# Altium footprint library транзисторы.PcbLib: 29 footprints (part 1 of 2)
Each footprint in its own frame and in the unit in brackets; x right, y up, seen from the top. Pads: shape width x height; smd on the part's side, far side on the other; paste and mask are expansions set on the pad; w line width, h text height; cw(c..) or ccw(c..) is an arc to the next point about the centre after c.
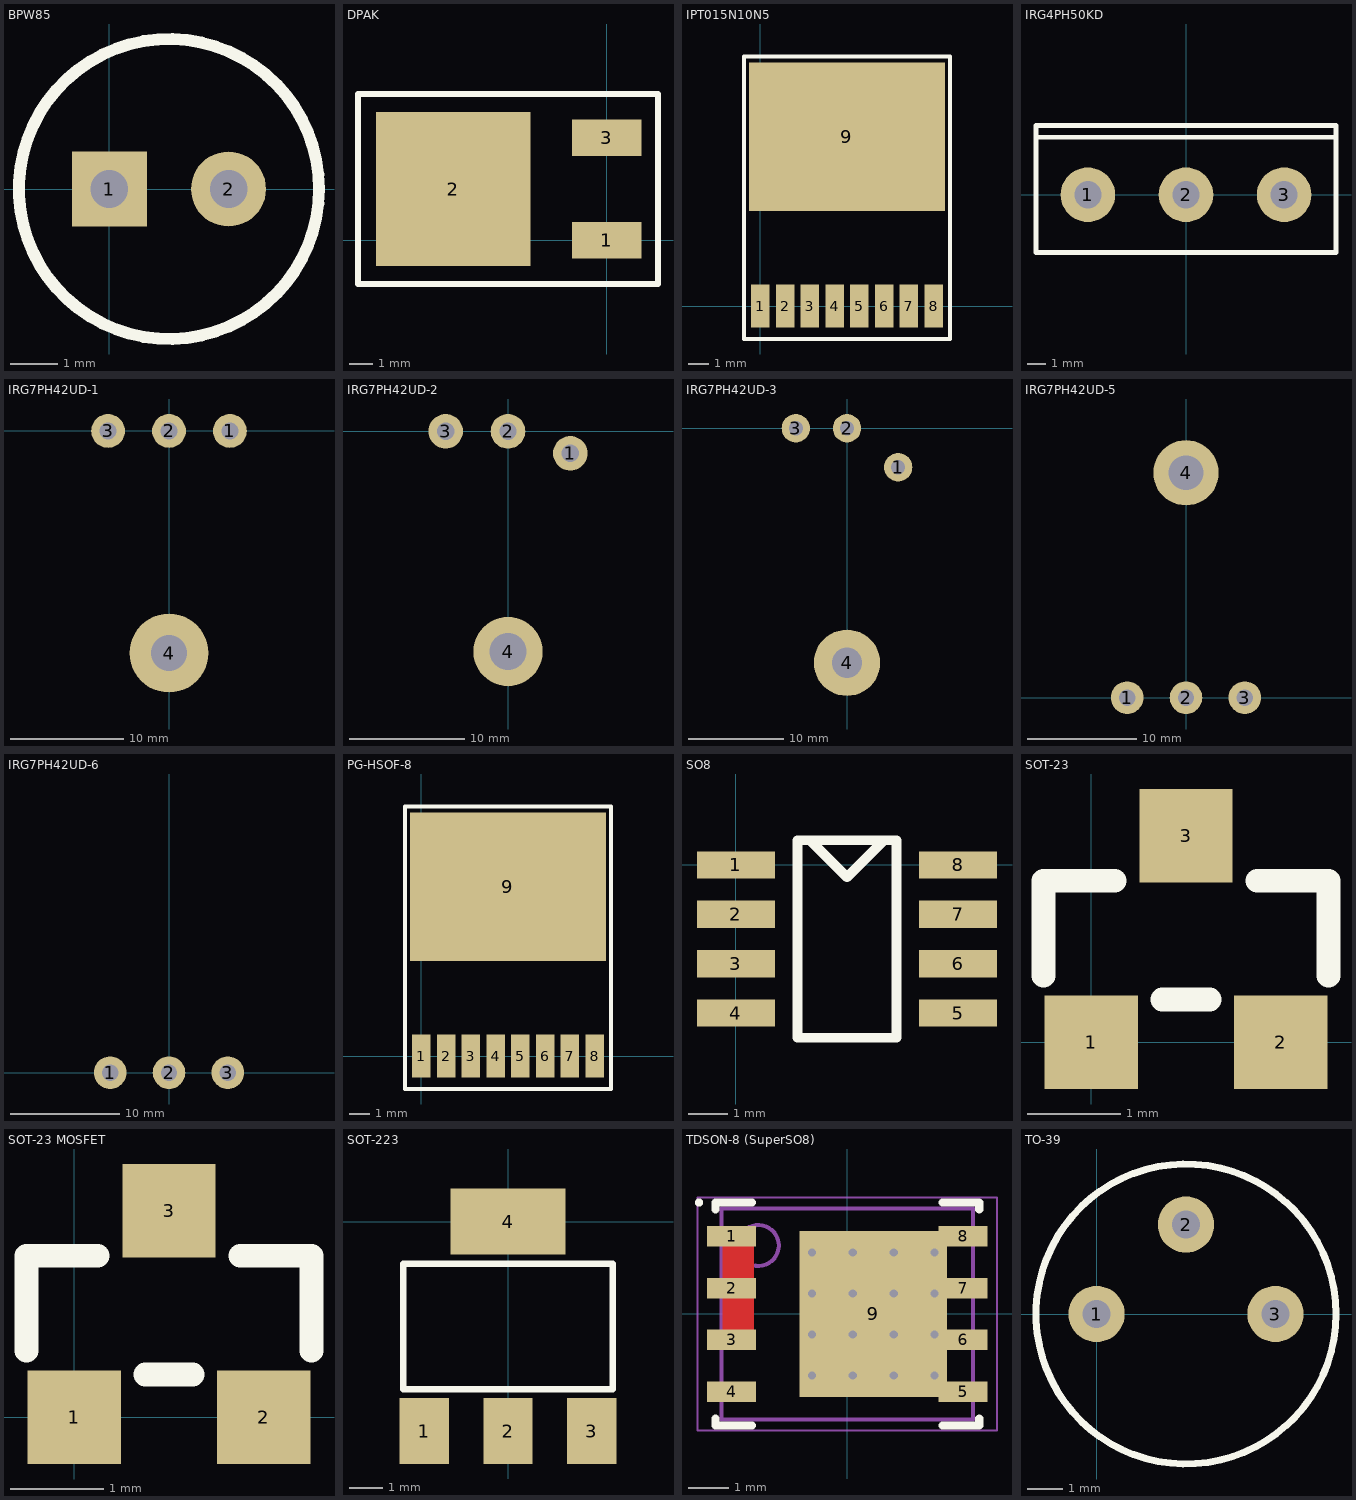
[diagram p0: the footprints below, top view; thin cyan lines are the x and y axes]

## BPW85 [mm]
pads (2):
  rect 1.6x1.6 hole 0.8: 1(0,0)
  round 1.6 hole 0.8: 2(2.54,0)
Top Overlay:
  circle w0.254: c1.27,0 r3.2

## DPAK [mm]
pads (3):
  rect 3x1.6 smd: 1(0,0) 3(0,4.445)
  rect 6.7x6.7 smd: 2(-6.667,2.222)
Top Overlay:
  lines w0.254: -10.795,-1.905 -10.795,6.35 2.222,6.35 2.222,-1.905 -10.795,-1.905

## IPT015N10N5 [mm]
pads (9):
  rect 0.9x2.1 smd: 1(0,0) 2(1.2,0) 3(2.4,0) 4(3.6,0) 5(4.8,0) 6(6,0) 7(7.2,0) 8(8.4,0)
  rect 9.5x7.2 smd: 9(4.2,8.2)
Top Overlay:
  lines w0.2: -0.8,-1.6 9.2,-1.6 9.2,12.1 -0.8,12.1 -0.8,-1.6

## IRG4PH50KD [mm]
pads (3):
  round 3 hole 1.5: 1(-5.397,0) 2(0,0) 3(5.397,0)
Top Overlay:
  lines w0.254: -8.255,3.175 8.255,3.175 ; -8.255,-3.175 -8.255,3.81 8.255,3.81 8.255,-3.175 -8.255,-3.175

## IRG7PH42UD-1 [mm]
pads (4):
  round 3 hole 1.5: 1(5.397,0) 2(0,0) 3(-5.397,0)
  round 7 hole 3.2: 4(0,-19.685)
Bottom Overlay:
  circle w0.254: c0,-19.685 r2
  lines w0.254: -8.255,-22.225 ccw(c-8.255,-19.685) -8.255,-17.145 ; -6.35,-4.763 -6.35,-1.587 ; -4.445,-4.763 -4.445,-1.587 ; -1.587,-4.763 -1.587,-1.587 ; 1.587,-4.763 1.587,-1.587 ; 4.445,-4.763 4.445,-1.587 ; 6.35,-4.763 6.35,-1.587 ; 8.255,-22.225 cw(c8.255,-19.685) 8.255,-17.145 ; -8.255,-25.082 -8.255,-4.763 8.255,-4.763 8.255,-25.082 -8.255,-25.082

## IRG7PH42UD-2 [mm]
pads (4):
  round 3 hole 1.5: 1(5.397,-1.905) 2(0,0) 3(-5.397,0)
  round 6 hole 3.2: 4(0,-19.05)
Bottom Overlay:
  circle w0.254: c0,-19.05 r2
  lines w0.254: -8.255,-21.59 ccw(c-8.255,-19.05) -8.255,-16.51 ; 8.255,-21.59 cw(c8.255,-19.05) 8.255,-16.51 ; -8.255,-24.447 8.255,-24.447 8.255,-4.127 -8.255,-4.127 -8.255,-24.447

## IRG7PH42UD-3 [mm]
pads (4):
  round 3 hole 1.5: 1(5.397,-4.127) 2(0,0) 3(-5.397,0)
  round 7 hole 3.2: 4(0,-24.765)
Bottom Overlay:
  circle w0.254: c0,-24.765 r2
  lines w0.254: -8.255,-27.305 ccw(c-8.255,-24.765) -8.255,-22.225 ; -6.35,-9.842 -6.35,-5.715 -4.445,-5.715 -4.445,-9.842 ; -5.715,-5.715 -5.715,-2.54 -5.08,-2.54 -5.08,-5.715 ; -1.587,-9.842 -1.587,-5.715 1.587,-5.715 1.587,-9.842 ; -0.635,-5.715 -0.635,-2.54 0.635,-2.54 0.635,-5.715 ; 4.445,-9.842 4.445,-6.667 ; 6.35,-9.842 6.35,-6.667 ; 8.255,-27.305 cw(c8.255,-24.765) 8.255,-22.225 ; -8.255,-30.162 8.255,-30.162 8.255,-9.842 -8.255,-9.842 -8.255,-30.162

## IRG7PH42UD-5 [mm]
pads (4):
  round 3 hole 1.5: 1(-5.397,0) 2(0,0) 3(5.397,0)
  round 6 hole 3.2: 4(0,20.637)
Bottom Overlay:
  circle w0.254: c0,20.637 r2
  lines w0.254: -8.255,18.098 ccw(c-8.255,20.637) -8.255,23.177 ; -6.35,1.587 -6.35,5.715 ; -4.445,1.587 -4.445,5.715 ; -1.587,1.587 -1.587,5.715 ; 1.587,1.587 1.587,5.715 ; 4.445,1.587 4.445,5.715 ; 6.35,1.587 6.35,5.715 ; 8.255,18.098 cw(c8.255,20.637) 8.255,23.177 ; -8.255,5.715 8.255,5.715 8.255,26.035 -8.255,26.035 -8.255,5.715

## IRG7PH42UD-6 [mm]
pads (3):
  round 3 hole 1.5: 1(-5.397,0) 2(0,0) 3(5.397,0)
Bottom Overlay:
  circle w0.254: c0,20.637 r2
  lines w0.254: -8.255,18.098 ccw(c-8.255,20.637) -8.255,23.177 ; -6.35,1.587 -6.35,5.715 ; -4.445,1.587 -4.445,5.715 ; -1.587,1.587 -1.587,5.715 ; 1.587,1.587 1.587,5.715 ; 4.445,1.587 4.445,5.715 ; 6.35,1.587 6.35,5.715 ; 8.255,18.098 cw(c8.255,20.637) 8.255,23.177 ; -8.255,5.715 8.255,5.715 8.255,26.035 -8.255,26.035 -8.255,5.715

## PG-HSOF-8 [mm]
pads (9):
  rect 0.9x2.1 smd: 1(0,0) 2(1.2,0) 3(2.4,0) 4(3.6,0) 5(4.8,0) 6(6,0) 7(7.2,0) 8(8.4,0)
  rect 9.5x7.2 smd: 9(4.2,8.2)
Top Overlay:
  lines w0.2: -0.8,-1.6 -0.8,12.1 9.2,12.1 9.2,-1.6 -0.8,-1.6

## SO8 [mm]
pads (8):
  rect 2x0.7 smd: 1(0,0) 2(0,-1.27) 3(0,-2.54) 4(0,-3.81) 5(5.715,-3.81) 6(5.715,-2.54) 7(5.715,-1.27) 8(5.715,0)
Top Overlay:
  lines w0.254: 1.905,0.635 2.857,-0.318 3.81,0.635 ; 1.587,-4.445 1.587,0.635 4.127,0.635 4.127,-4.445 1.587,-4.445

## SOT-23 [mm]
pads (3):
  rect 1x1 smd: 1(0,0) 2(2.032,0) 3(1.016,2.21)
Top Overlay:
  lines w0.254: -0.508,0.711 -0.508,1.727 0.254,1.727 ; 0.762,0.457 1.27,0.457 ; 1.778,1.727 2.54,1.727 2.54,0.711
3D body "User Library-SOT23A.SLDPRT": height 1.45, standoff 0, extent -0.534,-0.31 2.566,2.593

## SOT-23 MOSFET [mm]
pads (3):
  rect 1x1 smd: 1(0,0) 2(2.032,0) 3(1.016,2.21)
Top Overlay:
  lines w0.254: -0.508,0.711 -0.508,1.727 0.254,1.727 ; 0.762,0.457 1.27,0.457 ; 1.778,1.727 2.54,1.727 2.54,0.711
3D body "User Library-SOT23A.SLDPRT": height 1.45, standoff 0, extent -0.534,-0.31 2.566,2.593

## SOT-223 [mm]
pads (4):
  rect 1.5x2 smd: 1(-2.54,-6.35) 2(0,-6.35) 3(2.54,-6.35)
  rect 3.5x2 smd: 4(0,0)
Top Overlay:
  lines w0.2: -3.175,-5.08 -3.175,-1.27 3.175,-1.27 3.175,-5.08 -3.175,-5.08

## TDSON-8 (SuperSO8) [mm] "SON, 8-Leads, Body 5,15x6,15mm, Pitch 1,27mm, Thermal Pad"
height 1.1
pads (9):
  rect 1.2x0.5 smd: 1(-2.83,1.905) 2(-2.83,0.635) 3(-2.83,-0.635) 4(-2.83,-1.905) 5(2.83,-1.905) 6(2.83,-0.635) 7(2.83,0.635) 8(2.83,1.905)
  rect 3.6x4.05 smd: 9(0.635,0)
via -0.865,-0.5 diameter 0.5 hole 0.2
via -0.865,-1.5 diameter 0.5 hole 0.2
via -0.865,1.5 diameter 0.5 hole 0.2
via -0.865,0.5 diameter 0.5 hole 0.2
via 1.135,-0.5 diameter 0.5 hole 0.2
via 1.135,-1.5 diameter 0.5 hole 0.2
via 1.135,1.5 diameter 0.5 hole 0.2
via 1.135,0.5 diameter 0.5 hole 0.2
via 0.135,-0.5 diameter 0.5 hole 0.2
via 2.135,-0.5 diameter 0.5 hole 0.2
via 0.135,-1.5 diameter 0.5 hole 0.2
via 2.135,-1.5 diameter 0.5 hole 0.2
via 0.135,1.5 diameter 0.5 hole 0.2
via 2.135,1.5 diameter 0.5 hole 0.2
via 0.135,0.5 diameter 0.5 hole 0.2
via 2.135,0.5 diameter 0.5 hole 0.2
Top Layer:
  region: -3.048,1.905 -2.286,1.905 -2.286,-0.635 -3.048,-0.635
Top Overlay:
  circle w0.1: c-3.625,2.725 r0.05
  lines w0.2: -3.225,-2.555 -3.225,-2.725 -2.33,-2.725 ; -3.225,2.555 -3.225,2.725 -2.33,2.725 ; 2.33,-2.725 3.225,-2.725 3.225,-2.555 ; 2.33,2.725 3.225,2.725 3.225,2.555
Top Paste:
  rectangle: 1.335,-1.925 2.335,-0.775
  rectangle: 1.335,-0.575 2.335,0.575
  rectangle: 1.335,0.775 2.335,1.925
  rectangle: 0.135,-1.925 1.135,-0.775
  rectangle: 0.135,-0.575 1.135,0.575
  rectangle: 0.135,0.775 1.135,1.925
  rectangle: -1.065,-1.925 -0.065,-0.775
  rectangle: -1.065,-0.575 -0.065,0.575
  rectangle: -1.065,0.775 -0.065,1.925
Mechanical 14:
  circle w0.1: c-2.175,1.675 r0.5
  lines w0.1: -3.075,-2.575 3.075,-2.575 3.075,2.575 -3.075,2.575 -3.075,-2.575
Mechanical 15:
  lines w0.05: -3.66,-2.85 3.66,-2.85 3.66,2.85 -3.66,2.85 -3.66,-2.85
  lines w0.1: -0.5,0 0.5,0 ; 0,-0.5 0,0.5
3D body "User Library-son_1p27-6x5x1p10-5_8n.SLDPRT": height 1.1, standoff 0, extent -3.075,-2.575 3.075,2.575

## TO-39 [mm]
pads (3):
  round 1.6 hole 0.8: 1(0,0) 2(2.54,2.54) 3(5.08,0)
Top Overlay:
  circle w0.2: c2.54,0 r4.26
3D body "User Library-TO-39_TO-205AD.SLDPRT": height 16.6, standoff -1.82, extent -2.157,-4.698 7.238,4.697